# Altium schematic symbol library SparkFun-IC-Logic.SCHLIB: 22 symbols
Pins are listed as number, name and electrical type; pins without a type are passive.

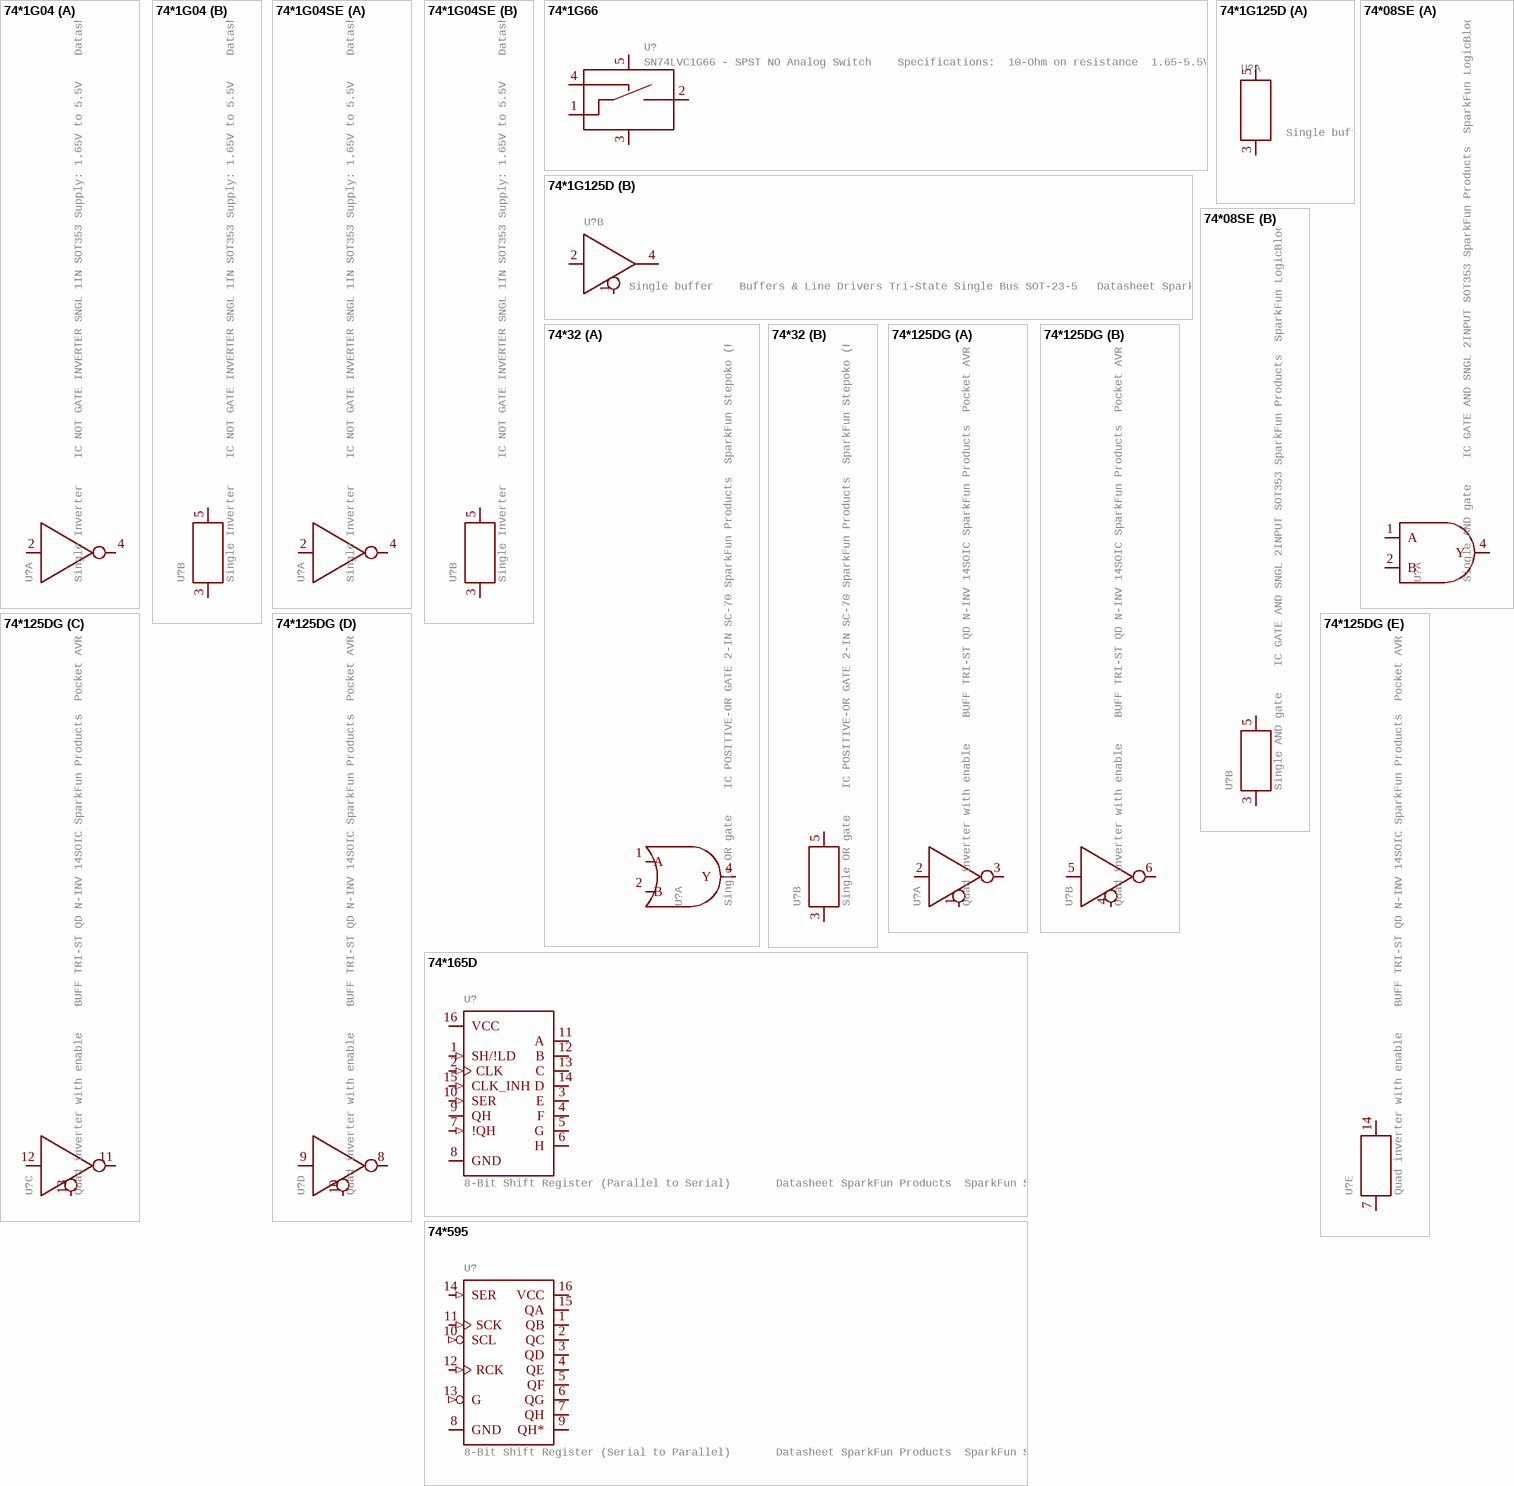
[diagram p0: symbols 74*1G04 to 74*595]

## 74*1G04
designator U?, comment Single Inverter    IC NOT GATE INVERTER SNGL 1IN SOT353 Supply: 1.65V to 5.5V    Datasheet SparkFun Products  SparkFun Stepoko (ROB-13899)  SparkFun CryptoShield (DEV-13183)  SparkFun LogicBlocks Kit (KIT-11006)  SparkFun ArduMoto (DEV-09815)
GateName_1: G1; SymbolName_1: GATE_INVERTER; GateName_2: G2; SymbolName_2: POWER_CONSORT; DeviceSetName: 74*1G04; PROD_ID: COMP-08268; LibraryName: SparkFun-IC-Logic; Package: SOT353
footprint SOT353
part A pins: 2 A (io), 4 Y (io)
part B pins: 3 P$V- (io), 5 P$V+ (io)

## 74*1G04SE
designator U?, comment Single Inverter    IC NOT GATE INVERTER SNGL 1IN SOT353 Supply: 1.65V to 5.5V    Datasheet SparkFun Products  SparkFun Stepoko (ROB-13899)  SparkFun CryptoShield (DEV-13183)  SparkFun LogicBlocks Kit (KIT-11006)  SparkFun ArduMoto (DEV-09815)
GateName_1: G1; SymbolName_1: GATE_INVERTER; GateName_2: G2; SymbolName_2: POWER_CONSORT; DeviceName: SE; DeviceSetName: 74*1G04; PROD_ID: IC-10843; LibraryName: SparkFun-IC-Logic; Package: SOT353
footprint SOT353
part A pins: 2 A (io), 4 Y (io)
part B pins: 3 P$V- (io), 5 P$V+ (io)

## 74*1G66
designator U?, comment SN74LVC1G66 - SPST NO Analog Switch    Specifications:  10-Ohm on resistance  1.65-5.5V       TI Datasheet   Example device(s):  Spectacle
GateName_1: G$1; SymbolName_1: SN74LVC1G66_SPST_AMUX; DeviceSetName: 74*1G66; PROD_ID: IC-13549; LibraryName: SparkFun-IC-Logic; Package: SOT23-5
footprint SOT23-5
pins: 1 A_IN (io), 2 A_OUT (io), 3 VSS (io), 4 CTRL_IN (io), 5 VCC (io)

## 74*1G125D
designator U?, comment Single buffer    Buffers & Line Drivers Tri-State Single Bus SOT-23-5   Datasheet SparkFun Products  SparkFun SAMD21 Mini Breakout (DEV-13664)  SparkFun SAMD21 Dev Breakout (DEV-13672)  SparkFun MIDI Shield (DEV-12898)  SparkFun WiFi Shield - CC3000 (DEV-12071)
GateName_1: G2; SymbolName_1: POWER_CONSORT; GateName_2: G$1; SymbolName_2: GATE_BUFFER_WITH_ENABLE; DeviceName: D; DeviceSetName: 74*1G125; PROD_ID: IC-11920; LibraryName: SparkFun-IC-Logic; Package: SOT23-5
footprint SOT23-5
part A pins: 3 P$V- (io), 5 P$V+ (io)
part B pins: 1 !EN (io), 2 A (io), 4 Y (io)

## 74*08SE
designator U?, comment Single AND gate    IC GATE AND SNGL 2INPUT SOT353 SparkFun Products  SparkFun LogicBlocks Kit (KIT-11006)  SparkFun RedBot Mainboard (ROB-12097)
GateName_1: G1; SymbolName_1: GATE_AND_2; GateName_2: G2; SymbolName_2: POWER_CONSORT; DeviceName: SE; DeviceSetName: 74*08; PROD_ID: IC-10841; LibraryName: SparkFun-IC-Logic; Package: SOT23-5
footprint SOT23-5
part A pins: 1 A (io), 2 B (io), 4 Y (io)
part B pins: 3 P$V- (io), 5 P$V+ (io)

## 74*32
designator U?, comment Single OR gate    IC POSITIVE-OR GATE 2-IN SC-70 SparkFun Products  SparkFun Stepoko (ROB-13899)  SparkFun LogicBlocks Kit (KIT-11006)
GateName_1: G1; SymbolName_1: GATE_OR_2; GateName_2: G2; SymbolName_2: POWER_CONSORT; DeviceSetName: 74*32; PROD_ID: IC-10842; LibraryName: SparkFun-IC-Logic; Package: SOT353
footprint SOT353
part A pins: 1 A (io), 2 B (io), 4 Y (io)
part B pins: 3 P$V- (io), 5 P$V+ (io)

## 74*125DG
designator U?, comment Quad inverter with enable    BUFF TRI-ST QD N-INV 14SOIC SparkFun Products  Pocket AVR Programmer (PGM-09825)  SparkFun Line Follower Array (SEN-13582)
GateName_1: G0; SymbolName_1: GATE_INVERTER_WITH_ENABLE; GateName_2: G1; GateName_3: G2; GateName_4: G3; GateName_5: PWR; SymbolName_5: POWER_CONSORT; DeviceName: DG; DeviceSetName: 74*125; PROD_ID: IC-08880; SymbolName_2: GATE_INVERTER_WITH_ENABLE; SymbolName_3: GATE_INVERTER_WITH_ENABLE; SymbolName_4: GATE_INVERTER_WITH_ENABLE; LibraryName: SparkFun-IC-Logic; Package: SO14
footprint SO14
part A pins: 1 !EN (io), 2 A (io), 3 Y (io)
part B pins: 4 !EN (io), 5 A (io), 6 Y (io)
part C pins: 11 Y (io), 12 A (io), 13 !EN (io)
part D pins: 8 Y (io), 9 A (io), 10 !EN (io)
part E pins: 7 P$V- (io), 14 P$V+ (io)

## 74*165D
designator U?, comment 8-Bit Shift Register (Parallel to Serial)       Datasheet SparkFun Products  SparkFun Shift-In Breakout - SN74HC165 (BOB-11733)
GateName_1: U1; SymbolName_1: 74165; DeviceName: D; DeviceSetName: 74*165; PROD_ID: IC-11325; LibraryName: SparkFun-IC-Logic; Package: SO16
footprint SO16
pins: 1 SH/!LD (in), 2 CLK (in), 3 E (hiz), 4 F (hiz), 5 G (hiz), 6 H (hiz), 7 !QH (in), 8 GND (power), 9 QH (hiz), 10 SER (in), 11 A (hiz), 12 B (hiz), 13 C (hiz), 14 D (hiz), 15 CLK_INH (in), 16 VCC (power)

## 74*595
designator U?, comment 8-Bit Shift Register (Serial to Parallel)       Datasheet SparkFun Products  SparkFun Shift Register Breakout - 74HC595 (BOB-10680)
GateName_1: U1; SymbolName_1: 74595; DeviceSetName: 74*595; LibraryName: SparkFun-IC-Logic; Package: TSSOP16
footprint TSSOP16
pins: 1 QB (hiz), 2 QC (hiz), 3 QD (hiz), 4 QE (hiz), 5 QF (hiz), 6 QG (hiz), 7 QH (hiz), 8 GND (power), 9 QH* (hiz), 10 SCL (in), 11 SCK (in), 12 RCK (in), 13 G (in), 14 SER (in), 15 QA (hiz), 16 VCC (power)

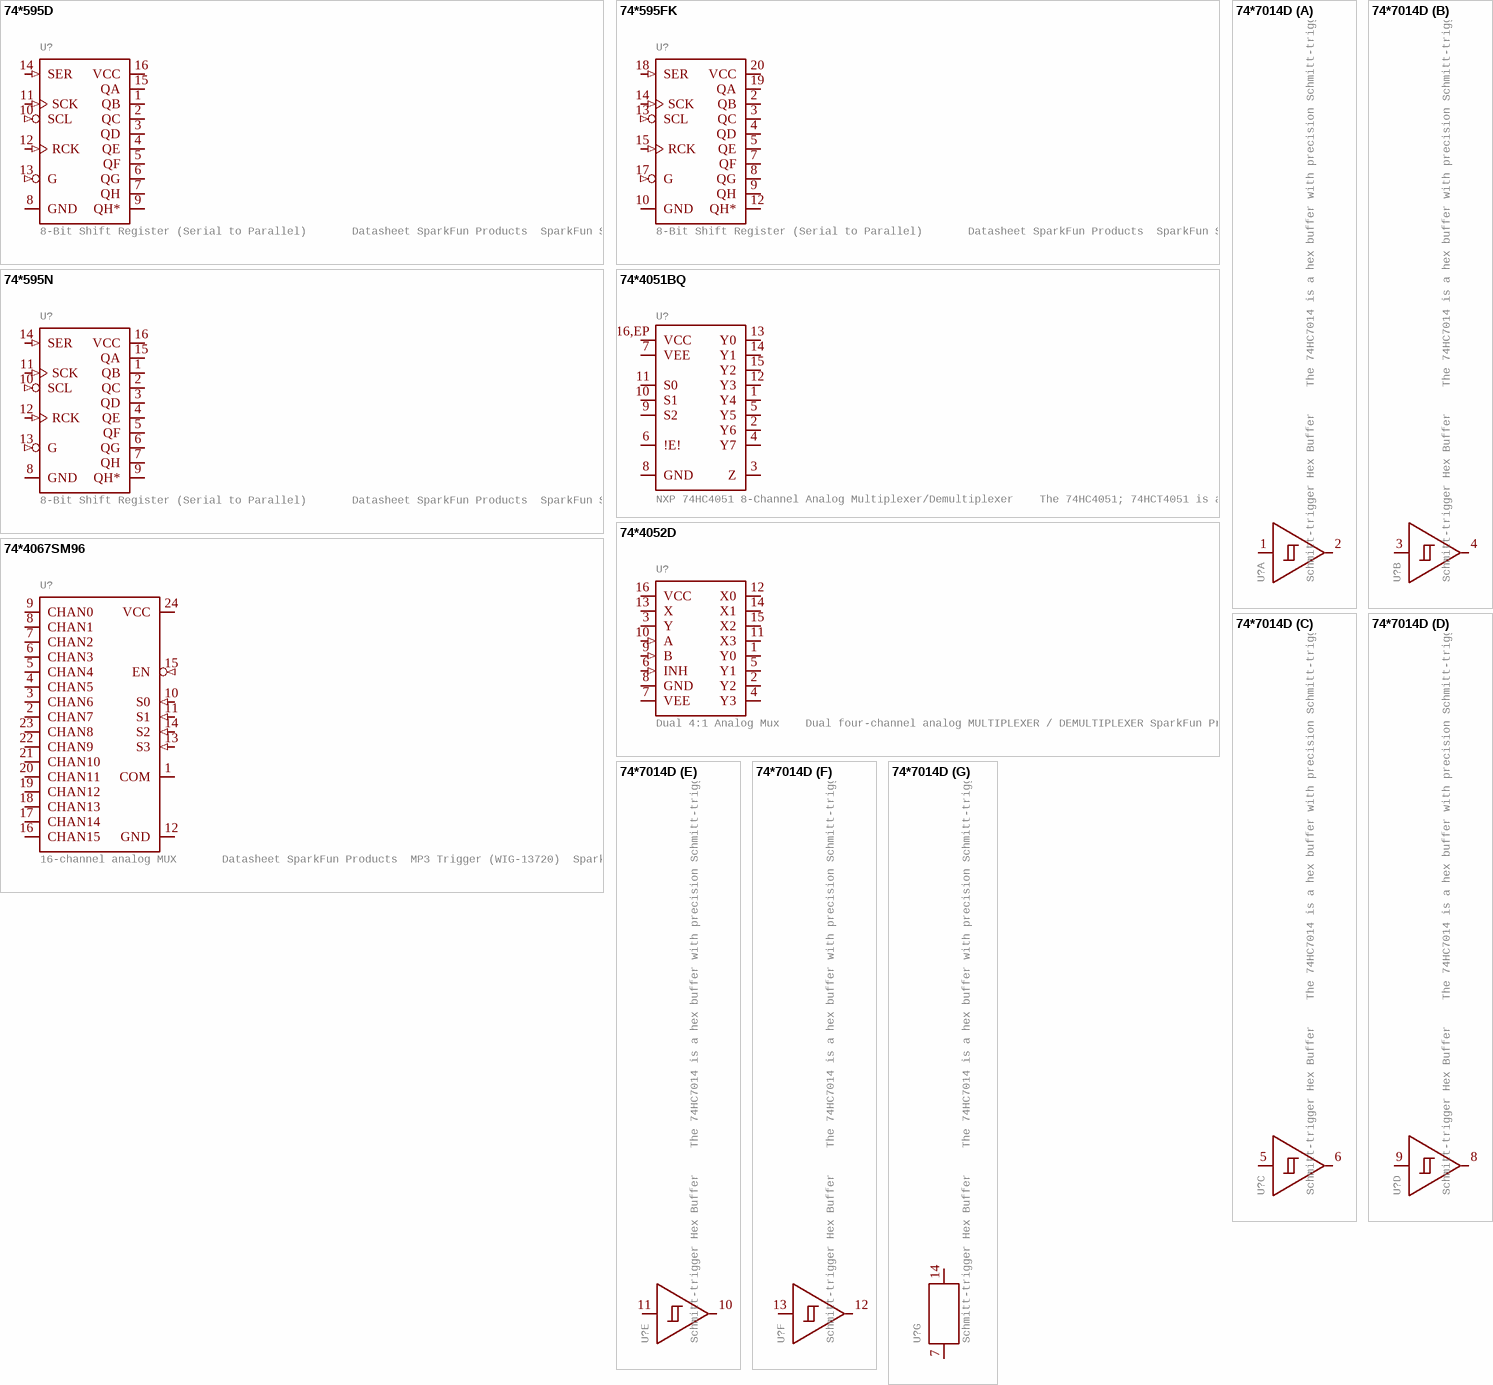
[diagram p1: symbols 74*595D to 74*7014D]

## 74*595D
designator U?, comment 8-Bit Shift Register (Serial to Parallel)       Datasheet SparkFun Products  SparkFun Shift Register Breakout - 74HC595 (BOB-10680)
GateName_1: U1; SymbolName_1: 74595; DeviceName: D; DeviceSetName: 74*595; PROD_ID: IC-07875; LibraryName: SparkFun-IC-Logic; Package: SO16
footprint SO16
pins: 1 QB (hiz), 2 QC (hiz), 3 QD (hiz), 4 QE (hiz), 5 QF (hiz), 6 QG (hiz), 7 QH (hiz), 8 GND (power), 9 QH* (hiz), 10 SCL (in), 11 SCK (in), 12 RCK (in), 13 G (in), 14 SER (in), 15 QA (hiz), 16 VCC (power)

## 74*595FK
designator U?, comment 8-Bit Shift Register (Serial to Parallel)       Datasheet SparkFun Products  SparkFun Shift Register Breakout - 74HC595 (BOB-10680)
GateName_1: U1; SymbolName_1: 74595; DeviceName: FK; DeviceSetName: 74*595; LibraryName: SparkFun-IC-Logic; Package: LCC20
footprint LCC20
pins: 2 QB (hiz), 3 QC (hiz), 4 QD (hiz), 5 QE (hiz), 7 QF (hiz), 8 QG (hiz), 9 QH (hiz), 10 GND (power), 12 QH* (hiz), 13 SCL (in), 14 SCK (in), 15 RCK (in), 17 G (in), 18 SER (in), 19 QA (hiz), 20 VCC (power)

## 74*595N
designator U?, comment 8-Bit Shift Register (Serial to Parallel)       Datasheet SparkFun Products  SparkFun Shift Register Breakout - 74HC595 (BOB-10680)
GateName_1: U1; SymbolName_1: 74595; DeviceName: N; DeviceSetName: 74*595; PROD_ID: IC-13123; LibraryName: SparkFun-IC-Logic; Package: DIP16
footprint DIP16
pins: 1 QB (hiz), 2 QC (hiz), 3 QD (hiz), 4 QE (hiz), 5 QF (hiz), 6 QG (hiz), 7 QH (hiz), 8 GND (power), 9 QH* (hiz), 10 SCL (in), 11 SCK (in), 12 RCK (in), 13 G (in), 14 SER (in), 15 QA (hiz), 16 VCC (power)

## 74*4051BQ
designator U?, comment NXP 74HC4051 8-Channel Analog Multiplexer/Demultiplexer    The 74HC4051; 74HCT4051 is a single-pole octal-throw analog switch (SP8T) suitable for use in analog or digital 8:1 multiplexer/demultiplexer applications. The switch features three digital select inputs (S0, S1 and S2), eight independent inputs/outputs (Yn), a common input/output (Z) and a digital enable input (E). When E is HIGH, the switches are turned off. Inputs include clamp diodes. This enables the use of current limiting resistors to interface inputs to voltages in excess of VCC.   Datasheet
GateName_1: G$1; DeviceName: BQ; DeviceSetName: 74*4051; PROD_ID: IC-13334; SymbolName_1: 74HC4051; LibraryName: SparkFun-IC-Logic; Package: DHVQFN-16-2.5X3.5MM
footprint DHVQFN-16-2.5X3.5MM
pins: 1 Y4 (io), 2 Y6 (io), 3 Z (io), 4 Y7 (io), 5 Y5 (io), 6 !E! (io), 7 VEE (io), 8 GND (io), 9 S2 (io), 10 S1 (io), 11 S0 (io), 12 Y3 (io), 13 Y0 (io), 14 Y1 (io), 15 Y2 (io), 16,EP VCC (io)

## 74*4052D
designator U?, comment Dual 4:1 Analog Mux    Dual four-channel analog MULTIPLEXER / DEMULTIPLEXER SparkFun Products  SparkFun Vernier Interface Shield (DEV-12858)
GateName_1: U1; SymbolName_1: 74HC4052; DeviceName: D; DeviceSetName: 74*4052; PROD_ID: IC-13103; LibraryName: SparkFun-IC-Logic; Package: SO16
footprint SO16
pins: 1 Y0 (io), 2 Y2 (io), 3 Y (io), 4 Y3 (io), 5 Y1 (io), 6 INH (in), 7 VEE (power), 8 GND (power), 9 B (in), 10 A (in), 11 X3 (io), 12 X0 (io), 13 X (io), 14 X1 (io), 15 X2 (io), 16 VCC (power)

## 74*4067SM96
designator U?, comment 16-channel analog MUX       Datasheet SparkFun Products  MP3 Trigger (WIG-13720)  SparkFun Analog/Digital MUX Breakout - CD74HC4067 (BOB-09056)
GateName_1: U1; DeviceName: SM96; DeviceSetName: 74*4067; PROD_ID: IC-08252; SymbolName_1: CD74HC4067; LibraryName: SparkFun-IC-Logic; Package: SSOP24
footprint SSOP24
pins: 1 COM (io), 2 CHAN7 (io), 3 CHAN6 (io), 4 CHAN5 (io), 5 CHAN4 (io), 6 CHAN3 (io), 7 CHAN2 (io), 8 CHAN1 (io), 9 CHAN0 (io), 10 S0 (in), 11 S1 (in), 12 GND (io), 13 S3 (in), 14 S2 (in), 15 EN (in), 16 CHAN15 (io), 17 CHAN14 (io), 18 CHAN13 (io), 19 CHAN12 (io), 20 CHAN11 (io), 21 CHAN10 (io), 22 CHAN9 (io), 23 CHAN8 (io), 24 VCC (io)

## 74*7014D
designator U?, comment Schmitt-trigger Hex Buffer    The 74HC7014 is a hex buffer with precision Schmitt-trigger inputs. The precisely defined trigger levels are lying in a window between (0.55 x VCC) and (0.65 x VCC). It makes the circuit suitable to operate in a highly noisy environment. Input shorts are allowed to -1.5 V and +16 V without disturbing other channels. Inputs include clamp diodes that enable the use of current limiting resistors to interface inputs to voltages in excess of VCC. Schmitt trigger inputs transform slowly changing input signals into sharply defined jitter-free output signals.  SparkFun Products  SparkFun Stepoko (ROB-13899)
GateName_1: G1; SymbolName_1: GATE_INVERTER_SCHMITT_TRIGGER; GateName_2: G2; GateName_3: G3; GateName_4: G4; GateName_5: G5; GateName_6: G6; GateName_7: G7; SymbolName_7: POWER_CONSORT; DeviceName: D; DeviceSetName: 74*7014; PROD_ID: IC-12527; SymbolName_2: GATE_INVERTER_SCHMITT_TRIGGER; SymbolName_3: GATE_INVERTER_SCHMITT_TRIGGER; SymbolName_4: GATE_INVERTER_SCHMITT_TRIGGER; SymbolName_5: GATE_INVERTER_SCHMITT_TRIGGER; SymbolName_6: GATE_INVERTER_SCHMITT_TRIGGER; LibraryName: SparkFun-IC-Logic; Package: SO14
footprint SO14
part A pins: 1 A (io), 2 Y (io)
part B pins: 3 A (io), 4 Y (io)
part C pins: 5 A (io), 6 Y (io)
part D pins: 8 Y (io), 9 A (io)
part E pins: 10 Y (io), 11 A (io)
part F pins: 12 Y (io), 13 A (io)
part G pins: 7 P$V- (io), 14 P$V+ (io)

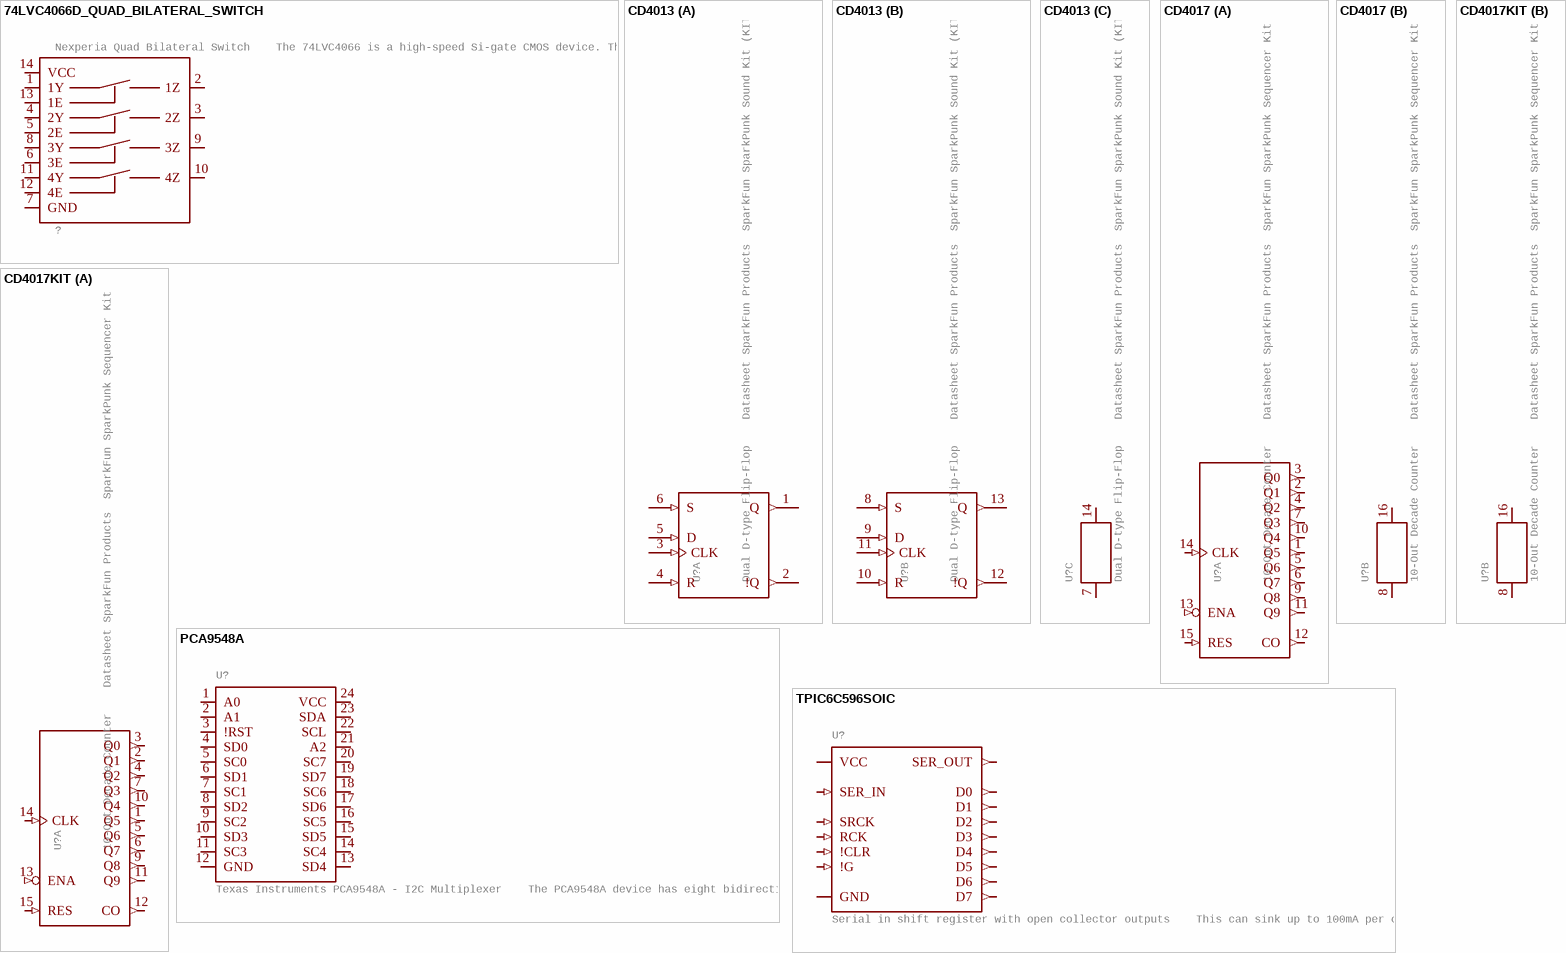
[diagram p2: symbols 74LVC4066D_QUAD_BILATERAL_SWITCH to TPIC6C596SOIC]

## 74LVC4066D_QUAD_BILATERAL_SWITCH
designator ?, comment Nexperia Quad Bilateral Switch    The 74LVC4066 is a high-speed Si-gate CMOS device. The 74LVC4066 provides four single pole, single-throw analog switch functions. Each switch has two input/output terminals (nY and nZ) and an active HIGH enable input (nE). When nE is LOW, the analog switch is turned off. Schmitt-trigger action at the enable inputs makes the circuit tolerant of slower input rise and fall times across the entire VCC range from 1.65 V to 5.5 V.   Datasheet
GateName_1: G$1; SymbolName_1: MUX_1:1_X4; DeviceSetName: 74LVC4066D_QUAD_BILATERAL_SWITCH; PROD_ID: IC-13944; LibraryName: SparkFun-IC-Logic; Package: SO14
footprint SO14
pins: 1 1Y (io), 2 1Z (io), 3 2Z (io), 4 2Y (io), 5 2E (io), 6 3E (io), 7 GND (io), 8 3Y (io), 9 3Z (io), 10 4Z (io), 11 4Y (io), 12 4E (io), 13 1E (io), 14 VCC (io)

## CD4013
designator U?, comment Dual D-type Flip-Flop    Datasheet SparkFun Products  SparkFun SparkPunk Sound Kit (KIT-11177)  SparkFun SparkPunk Sequencer Kit (KIT-12707)
GateName_1: G1; SymbolName_1: CD4013; GateName_2: G2; GateName_3: G3; SymbolName_3: POWER_CONSORT; PROD_ID: IC-11896; SymbolName_2: CD4013; LibraryName: SparkFun-IC-Logic; DeviceSetName: CD4013; Package: DIP14-KIT
footprint DIP14-KIT
part A pins: 1 Q (out), 2 !Q (out), 3 CLK (in), 4 R (in), 5 D (in), 6 S (in)
part B pins: 8 S (in), 9 D (in), 10 R (in), 11 CLK (in), 12 !Q (out), 13 Q (out)
part C pins: 7 P$V- (io), 14 P$V+ (io)

## CD4017
designator U?, comment 10-Out Decade Counter    Datasheet SparkFun Products  SparkFun SparkPunk Sequencer Kit (KIT-12707)
GateName_1: G1; SymbolName_1: CD4017; GateName_2: G2; SymbolName_2: POWER_CONSORT; PROD_ID: IC-11929; LibraryName: SparkFun-IC-Logic; DeviceSetName: CD4017; Package: DIP16
footprint DIP16
part A pins: 1 Q5 (out), 2 Q1 (out), 3 Q0 (out), 4 Q2 (out), 5 Q6 (out), 6 Q7 (out), 7 Q3 (out), 9 Q8 (out), 10 Q4 (out), 11 Q9 (out), 12 CO (out), 13 ENA (in), 14 CLK (in), 15 RES (in)
part B pins: 8 P$V- (io), 16 P$V+ (io)

## CD4017KIT
designator U?, comment 10-Out Decade Counter    Datasheet SparkFun Products  SparkFun SparkPunk Sequencer Kit (KIT-12707)
GateName_1: G1; SymbolName_1: CD4017; GateName_2: G2; SymbolName_2: POWER_CONSORT; PROD_ID: IC-11929; DeviceName: KIT; LibraryName: SparkFun-IC-Logic; DeviceSetName: CD4017; Package: DIP16-KIT
footprint DIP16-KIT
part A pins: 1 Q5 (out), 2 Q1 (out), 3 Q0 (out), 4 Q2 (out), 5 Q6 (out), 6 Q7 (out), 7 Q3 (out), 9 Q8 (out), 10 Q4 (out), 11 Q9 (out), 12 CO (out), 13 ENA (in), 14 CLK (in), 15 RES (in)
part B pins: 8 P$V- (io), 16 P$V+ (io)

## PCA9548A
designator U?, comment Texas Instruments PCA9548A - I2C Multiplexer    The PCA9548A device has eight bidirectional translating switches that can be controlled through the I2C bus. The SCL/SDA upstream pair fans out to eight downstream pairs, or channels. Any individual SCn/SDn channel or combination of channels can be selected, determined by the contents of the programmable control register. These downstream channels can be used to resolve I2C slave address conflicts.
GateName_1: U1; SymbolName_1: TCA9548A; PROD_ID: IC-13948; LibraryName: SparkFun-IC-Logic; DeviceSetName: PCA9548A; Package: TSSOP28
footprint TSSOP28
pins: 1 A0 (io), 2 A1 (io), 3 !RST (io), 4 SD0 (io), 5 SC0 (io), 6 SD1 (io), 7 SC1 (io), 8 SD2 (io), 9 SC2 (io), 10 SD3 (io), 11 SC3 (io), 12 GND (io), 13 SD4 (io), 14 SC4 (io), 15 SD5 (io), 16 SC5 (io), 17 SD6 (io), 18 SC6 (io), 19 SD7 (io), 20 SC7 (io), 21 A2 (io), 22 SCL (io), 23 SDA (io), 24 VCC (io)

## TPIC6C596SOIC
designator U?, comment Serial in shift register with open collector outputs    This can sink up to 100mA per channel   Datasheet SparkFun Products  SparkFun Large Digit Driver (WIG-13279)
GateName_1: U1; SymbolName_1: TPIC6C595; DeviceName: SOIC; DeviceSetName: TPIC6C596; PROD_ID: IC-12522; LibraryName: SparkFun-IC-Logic; Package: SO16
footprint SO16
pins: 1 VCC (power), 2 SER_IN (in), 3 D0 (out), 4 D1 (out), 5 D2 (out), 6 D3 (out), 7 !CLR (in), 8 !G (in), 9 SER_OUT (out), 10 RCK (in), 11 D4 (out), 12 D5 (out), 13 D6 (out), 14 D7 (out), 15 SRCK (in), 16 GND (power)